# EAGLE library part RG240128B (library display)
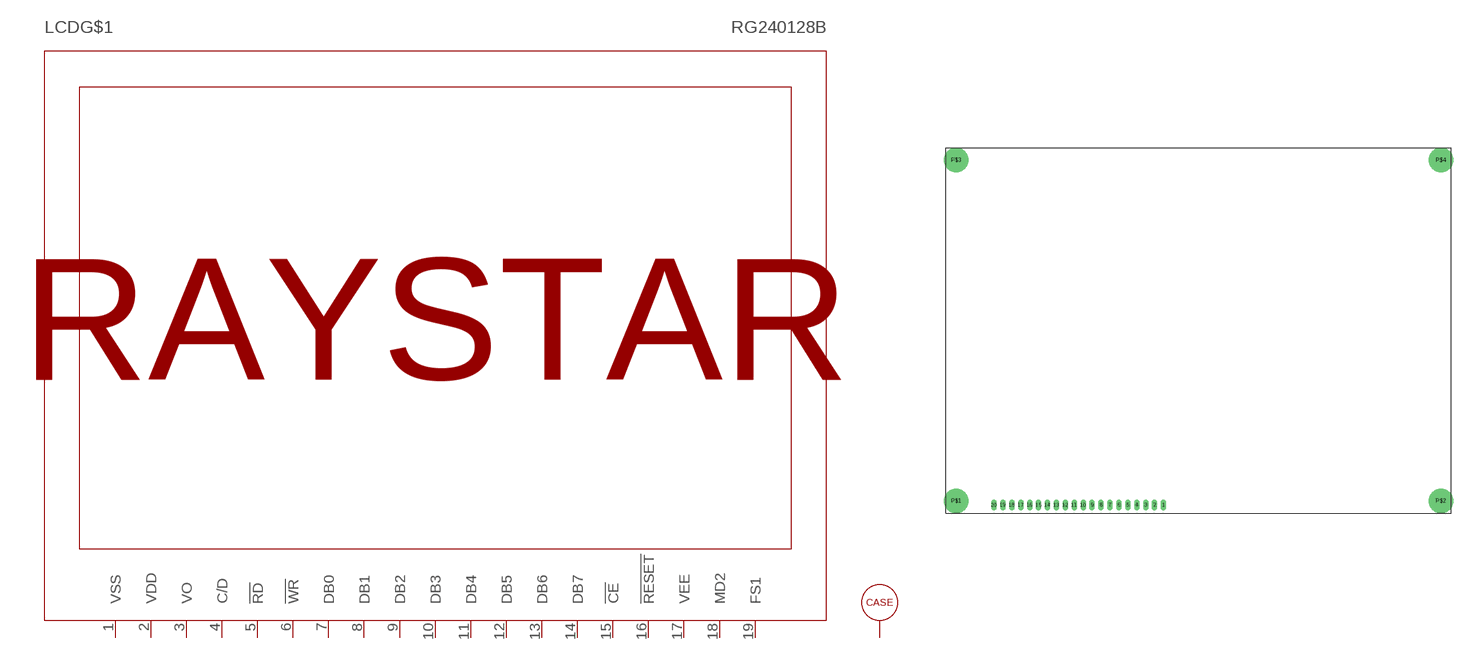
[diagram p5: symbol with the pads of RG240128B; footprint RG240128B]

Designator prefix LCD; gates G$1=RG240128B G$2=CASE

## RG240128B  [RG240128B]
1  G$1:VSS
2  G$1:VDD
3  G$1:VO
4  G$1:C/D
5  G$1:!RD!
6  G$1:!WR!
7  G$1:DB0
8  G$1:DB1
9  G$1:DB2
10  G$1:DB3
11  G$1:DB4
12  G$1:DB5
13  G$1:DB6
14  G$1:DB7
15  G$1:!CE!
16  G$1:!RESET!
17  G$1:VEE
18  G$1:MD2
19  G$1:FS1
P$1  G$2:P$1
P$2  G$2:P$1
P$3  G$2:P$1
P$4  G$2:P$1

## Footprint RG240128B (pad centres in mm)
drill 1.016 long: 1 62,2.3; 2 59.46,2.3; 3 56.92,2.3; 4 54.38,2.3; 5 51.84,2.3; 6 49.3,2.3; 7 46.76,2.3; 8 44.22,2.3; 9 41.68,2.3; 10 39.14,2.3; 11 36.6,2.3; 12 34.06,2.3; 13 31.52,2.3; 14 28.98,2.3; 15 26.44,2.3; 16 23.9,2.3; 17 21.36,2.3; 18 18.82,2.3; 19 16.28,2.3; 20 13.74,2.3
drill 3.5 pad 7: P$1 3,3.5; P$2 141,3.5; P$3 3,100.5; P$4 141,100.5